# Altium schematic symbol library AD8337.SchLib: 1 symbol
Pins are listed as number, name and electrical type; pins without a type are passive.

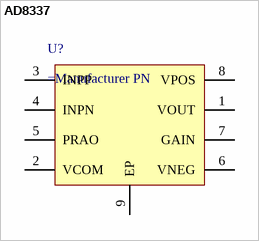
[diagram p0: symbol AD8337]

## AD8337
designator U?
Variable Gain Amplifier
pins: 1 VOUT, 2 VCOM, 3 INPP, 4 INPN, 5 PRAO, 6 VNEG, 7 GAIN, 8 VPOS, 9 EP